# Altium schematic symbol library SCH - MCU - RENESAS - RENESAS R7FS5D37XXXXXXLJ 100LGA.SchLib: 1 symbol
Pins are listed as number, name and electrical type; pins without a type are passive.

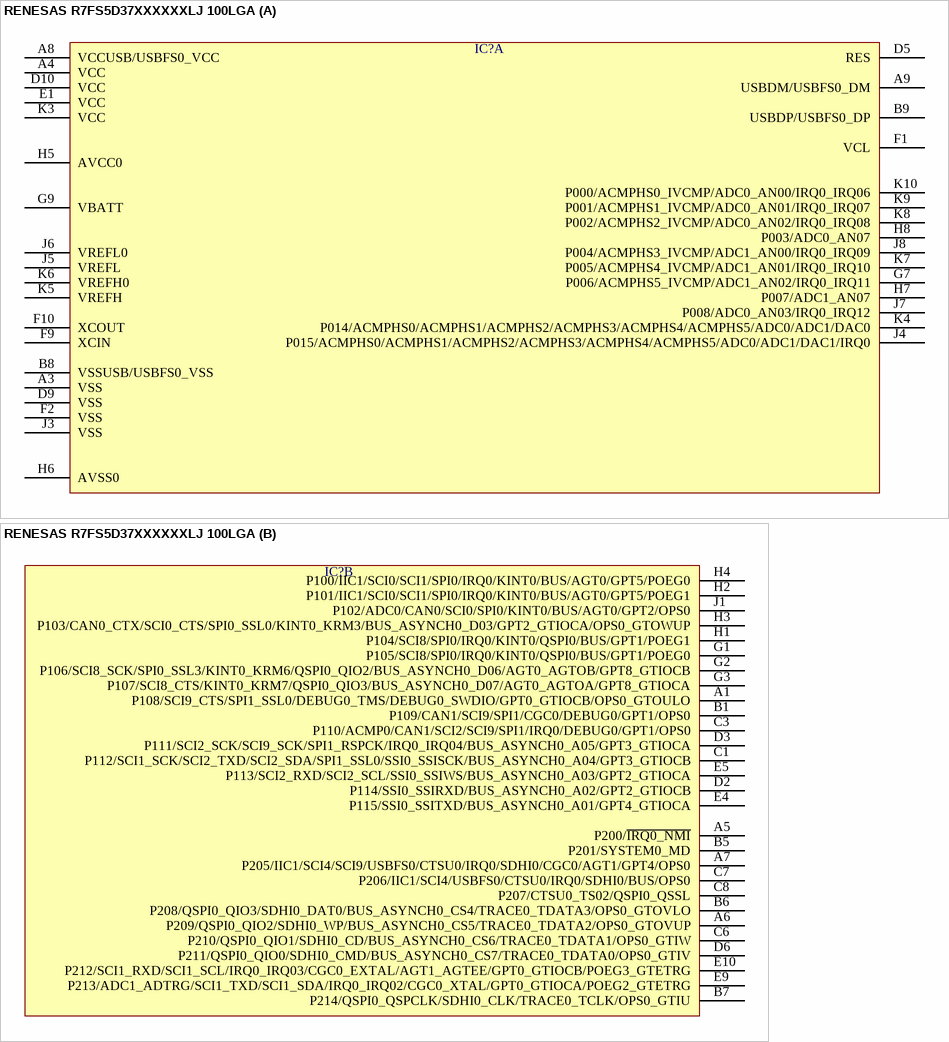
[diagram p0: symbol RENESAS R7FS5D37XXXXXXLJ 100LGA]

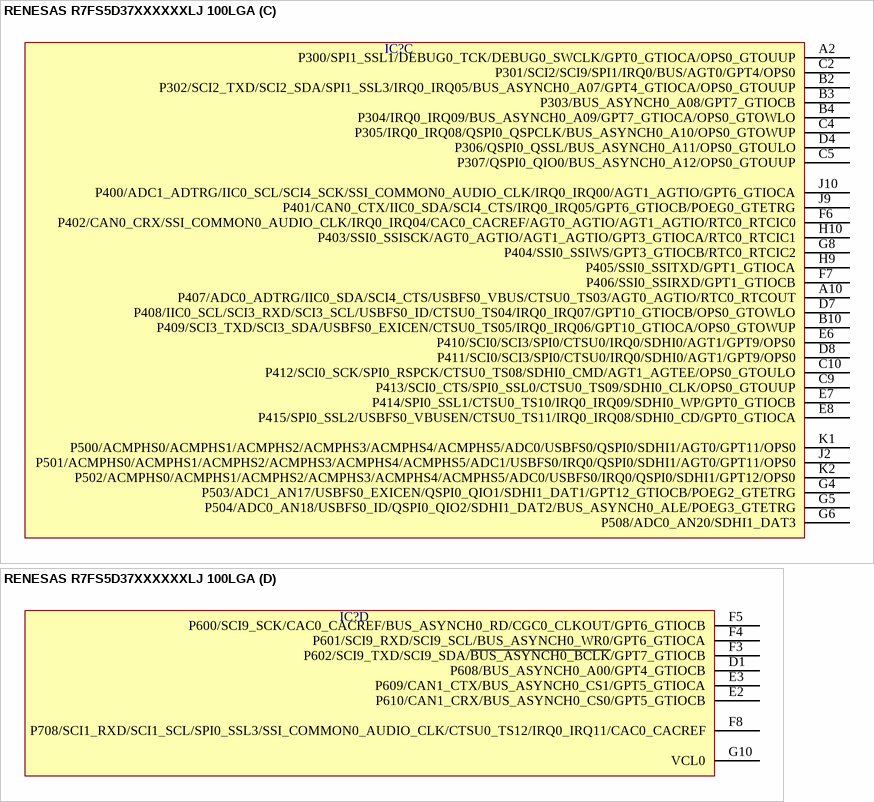
[diagram p1: symbol RENESAS R7FS5D37XXXXXXLJ 100LGA]

## RENESAS R7FS5D37XXXXXXLJ 100LGA
designator IC?  (value not drawn)
part A pins: A3 VSS, A4 VCC, A8 VCCUSB/USBFS0_VCC, A9 USBDM/USBFS0_DM, B8 VSSUSB/USBFS0_VSS, B9 USBDP/USBFS0_DP, D5 RES, D9 VSS, D10 VCC, E1 VCC, F1 VCL, F2 VSS, F9 XCIN, F10 XCOUT, G7 P006/ACMPHS5_IVCMP/ADC1_AN02/IRQ0_IRQ11, G9 VBATT, H5 AVCC0, H6 AVSS0, H7 P007/ADC1_AN07, H8 P003/ADC0_AN07, J3 VSS, J4 P015/ACMPHS0/ACMPHS1/ACMPHS2/ACMPHS3/ACMPHS4/ACMPHS5/ADC0/ADC1/DAC1/IRQ0, J5 VREFL, J6 VREFL0, J7 P008/ADC0_AN03/IRQ0_IRQ12, J8 P004/ACMPHS3_IVCMP/ADC1_AN00/IRQ0_IRQ09, K3 VCC, K4 P014/ACMPHS0/ACMPHS1/ACMPHS2/ACMPHS3/ACMPHS4/ACMPHS5/ADC0/ADC1/DAC0, K5 VREFH, K6 VREFH0, K7 P005/ACMPHS4_IVCMP/ADC1_AN01/IRQ0_IRQ10, K8 P002/ACMPHS2_IVCMP/ADC0_AN02/IRQ0_IRQ08, K9 P001/ACMPHS1_IVCMP/ADC0_AN01/IRQ0_IRQ07, K10 P000/ACMPHS0_IVCMP/ADC0_AN00/IRQ0_IRQ06
part B pins: A1 P108/SCI9_CTS/SPI1_SSL0/DEBUG0_TMS/DEBUG0_SWDIO/GPT0_GTIOCB/OPS0_GTOULO, A5 P200/~{IRQ0_NMI}, A6 P209/QSPI0_QIO2/SDHI0_WP/BUS_ASYNCH0_CS5/TRACE0_TDATA2/OPS0_GTOVUP, A7 P205/IIC1/SCI4/SCI9/USBFS0/CTSU0/IRQ0/SDHI0/CGC0/AGT1/GPT4/OPS0, B1 P109/CAN1/SCI9/SPI1/CGC0/DEBUG0/GPT1/OPS0, B5 P201/SYSTEM0_MD, B6 P208/QSPI0_QIO3/SDHI0_DAT0/BUS_ASYNCH0_CS4/TRACE0_TDATA3/OPS0_GTOVLO, B7 P214/QSPI0_QSPCLK/SDHI0_CLK/TRACE0_TCLK/OPS0_GTIU, C1 P112/SCI1_SCK/SCI2_TXD/SCI2_SDA/SPI1_SSL0/SSI0_SSISCK/BUS_ASYNCH0_A04/GPT3_GTIOCB, C3 P110/ACMP0/CAN1/SCI2/SCI9/SPI1/IRQ0/DEBUG0/GPT1/OPS0, C6 P210/QSPI0_QIO1/SDHI0_CD/BUS_ASYNCH0_CS6/TRACE0_TDATA1/OPS0_GTIW, C7 P206/IIC1/SCI4/USBFS0/CTSU0/IRQ0/SDHI0/BUS/OPS0, C8 P207/CTSU0_TS02/QSPI0_QSSL, D2 P114/SSI0_SSIRXD/BUS_ASYNCH0_A02/GPT2_GTIOCB, D3 P111/SCI2_SCK/SCI9_SCK/SPI1_RSPCK/IRQ0_IRQ04/BUS_ASYNCH0_A05/GPT3_GTIOCA, D6 P211/QSPI0_QIO0/SDHI0_CMD/BUS_ASYNCH0_CS7/TRACE0_TDATA0/OPS0_GTIV, E4 P115/SSI0_SSITXD/BUS_ASYNCH0_A01/GPT4_GTIOCA, E5 P113/SCI2_RXD/SCI2_SCL/SSI0_SSIWS/BUS_ASYNCH0_A03/GPT2_GTIOCA, E9 P213/ADC1_ADTRG/SCI1_TXD/SCI1_SDA/IRQ0_IRQ02/CGC0_XTAL/GPT0_GTIOCA/POEG2_GTETRG, E10 P212/SCI1_RXD/SCI1_SCL/IRQ0_IRQ03/CGC0_EXTAL/AGT1_AGTEE/GPT0_GTIOCB/POEG3_GTETRG, G1 P105/SCI8/SPI0/IRQ0/KINT0/QSPI0/BUS/GPT1/POEG0, G2 P106/SCI8_SCK/SPI0_SSL3/KINT0_KRM6/QSPI0_QIO2/BUS_ASYNCH0_D06/AGT0_AGTOB/GPT8_GTIOCB, G3 P107/SCI8_CTS/KINT0_KRM7/QSPI0_QIO3/BUS_ASYNCH0_D07/AGT0_AGTOA/GPT8_GTIOCA, H1 P104/SCI8/SPI0/IRQ0/KINT0/QSPI0/BUS/GPT1/POEG1, H2 P101/IIC1/SCI0/SCI1/SPI0/IRQ0/KINT0/BUS/AGT0/GPT5/POEG1, H3 P103/CAN0_CTX/SCI0_CTS/SPI0_SSL0/KINT0_KRM3/BUS_ASYNCH0_D03/GPT2_GTIOCA/OPS0_GTOWUP, H4 P100/IIC1/SCI0/SCI1/SPI0/IRQ0/KINT0/BUS/AGT0/GPT5/POEG0, J1 P102/ADC0/CAN0/SCI0/SPI0/KINT0/BUS/AGT0/GPT2/OPS0
part C pins: A2 P300/SPI1_SSL1/DEBUG0_TCK/DEBUG0_SWCLK/GPT0_GTIOCA/OPS0_GTOUUP, A10 P407/ADC0_ADTRG/IIC0_SDA/SCI4_CTS/USBFS0_VBUS/CTSU0_TS03/AGT0_AGTIO/RTC0_RTCOUT, B2 P302/SCI2_TXD/SCI2_SDA/SPI1_SSL3/IRQ0_IRQ05/BUS_ASYNCH0_A07/GPT4_GTIOCA/OPS0_GTOUUP, B3 P303/BUS_ASYNCH0_A08/GPT7_GTIOCB, B4 P304/IRQ0_IRQ09/BUS_ASYNCH0_A09/GPT7_GTIOCA/OPS0_GTOWLO, B10 P409/SCI3_TXD/SCI3_SDA/USBFS0_EXICEN/CTSU0_TS05/IRQ0_IRQ06/GPT10_GTIOCA/OPS0_GTOWUP, C2 P301/SCI2/SCI9/SPI1/IRQ0/BUS/AGT0/GPT4/OPS0, C4 P305/IRQ0_IRQ08/QSPI0_QSPCLK/BUS_ASYNCH0_A10/OPS0_GTOWUP, C5 P307/QSPI0_QIO0/BUS_ASYNCH0_A12/OPS0_GTOUUP, C9 P413/SCI0_CTS/SPI0_SSL0/CTSU0_TS09/SDHI0_CLK/OPS0_GTOUUP, C10 P412/SCI0_SCK/SPI0_RSPCK/CTSU0_TS08/SDHI0_CMD/AGT1_AGTEE/OPS0_GTOULO, D4 P306/QSPI0_QSSL/BUS_ASYNCH0_A11/OPS0_GTOULO, D7 P408/IIC0_SCL/SCI3_RXD/SCI3_SCL/USBFS0_ID/CTSU0_TS04/IRQ0_IRQ07/GPT10_GTIOCB/OPS0_GTOWLO, D8 P411/SCI0/SCI3/SPI0/CTSU0/IRQ0/SDHI0/AGT1/GPT9/OPS0, E6 P410/SCI0/SCI3/SPI0/CTSU0/IRQ0/SDHI0/AGT1/GPT9/OPS0, E7 P414/SPI0_SSL1/CTSU0_TS10/IRQ0_IRQ09/SDHI0_WP/GPT0_GTIOCB, E8 P415/SPI0_SSL2/USBFS0_VBUSEN/CTSU0_TS11/IRQ0_IRQ08/SDHI0_CD/GPT0_GTIOCA, F6 P402/CAN0_CRX/SSI_COMMON0_AUDIO_CLK/IRQ0_IRQ04/CAC0_CACREF/AGT0_AGTIO/AGT1_AGTIO/RTC0_RTCIC0, F7 P406/SSI0_SSIRXD/GPT1_GTIOCB, G4 P503/ADC1_AN17/USBFS0_EXICEN/QSPI0_QIO1/SDHI1_DAT1/GPT12_GTIOCB/POEG2_GTETRG, G5 P504/ADC0_AN18/USBFS0_ID/QSPI0_QIO2/SDHI1_DAT2/BUS_ASYNCH0_ALE/POEG3_GTETRG, G6 P508/ADC0_AN20/SDHI1_DAT3, G8 P404/SSI0_SSIWS/GPT3_GTIOCB/RTC0_RTCIC2, H9 P405/SSI0_SSITXD/GPT1_GTIOCA, H10 P403/SSI0_SSISCK/AGT0_AGTIO/AGT1_AGTIO/GPT3_GTIOCA/RTC0_RTCIC1, J2 P501/ACMPHS0/ACMPHS1/ACMPHS2/ACMPHS3/ACMPHS4/ACMPHS5/ADC1/USBFS0/IRQ0/QSPI0/SDHI1/AGT0/GPT11/OPS0, J9 P401/CAN0_CTX/IIC0_SDA/SCI4_CTS/IRQ0_IRQ05/GPT6_GTIOCB/POEG0_GTETRG, J10 P400/ADC1_ADTRG/IIC0_SCL/SCI4_SCK/SSI_COMMON0_AUDIO_CLK/IRQ0_IRQ00/AGT1_AGTIO/GPT6_GTIOCA, K1 P500/ACMPHS0/ACMPHS1/ACMPHS2/ACMPHS3/ACMPHS4/ACMPHS5/ADC0/USBFS0/QSPI0/SDHI1/AGT0/GPT11/OPS0, K2 P502/ACMPHS0/ACMPHS1/ACMPHS2/ACMPHS3/ACMPHS4/ACMPHS5/ADC0/USBFS0/IRQ0/QSPI0/SDHI1/GPT12/OPS0
part D pins: D1 P608/BUS_ASYNCH0_A00/GPT4_GTIOCB, E2 P610/CAN1_CRX/BUS_ASYNCH0_CS0/GPT5_GTIOCB, E3 P609/CAN1_CTX/BUS_ASYNCH0_CS1/GPT5_GTIOCA, F3 P602/SCI9_TXD/SCI9_SDA/~{BUS_ASYNCH0_BCLK}/GPT7_GTIOCB, F4 P601/SCI9_RXD/SCI9_SCL/BUS_ASYNCH0_WR0/GPT6_GTIOCA, F5 P600/SCI9_SCK/CAC0_CACREF/BUS_ASYNCH0_RD/CGC0_CLKOUT/GPT6_GTIOCB, F8 P708/SCI1_RXD/SCI1_SCL/SPI0_SSL3/SSI_COMMON0_AUDIO_CLK/CTSU0_TS12/IRQ0_IRQ11/CAC0_CACREF, G10 VCL0